# Altium schematic symbol library IC_Texas_Instruments_LMR14010ADDCR_eec.SchLib: 1 symbol
Pins are listed as number, name and electrical type; pins without a type are passive.

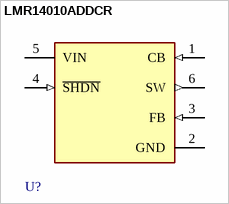
[diagram p0: symbol LMR14010ADDCR]

## LMR14010ADDCR
designator U?  (value not drawn)
footprint Texas_Instruments_DDC0006A_IPC_A
footprint Texas_Instruments_DDC0006A_IPC_B
footprint Texas_Instruments_DDC0006A_IPC_C
footprint Texas_Instruments_DDC0006A_MFG
pins: 1 CB (in), 2 GND (power), 3 FB (in), 4 ~{SHDN} (in), 5 VIN (power), 6 SW (out)